# EAGLE library part SP3T_SWITCH (library cyclops)
TOGGLE SWITCH distributor RS Components
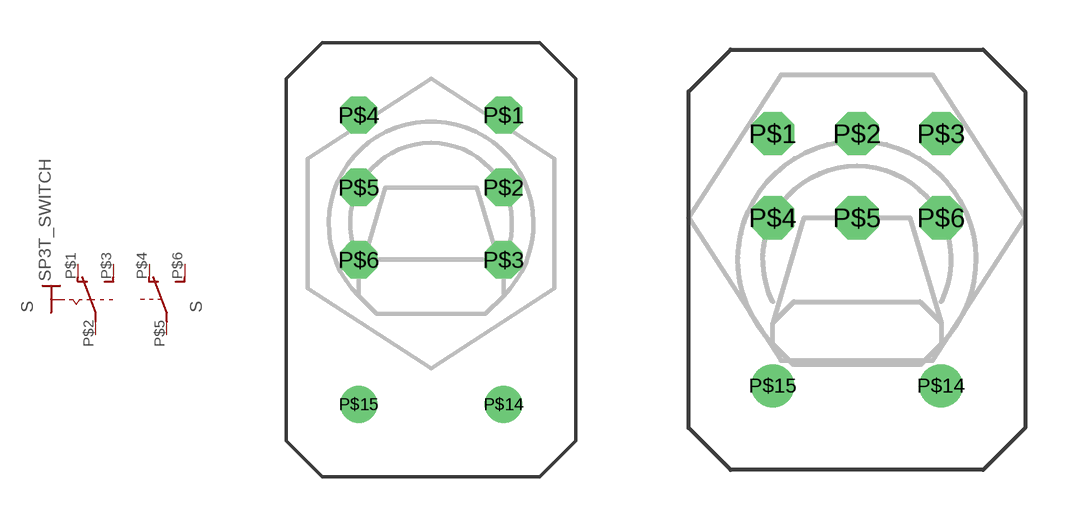
[diagram p1: symbol with the pads of 320-938; footprints 320-938, A27-ST3P]

Designator prefix S; gates B=U2 1=KS-U-

## SP3T_SWITCH  [320-938]
P$1  1:O  pas
P$2  1:P  pas
P$3  1:S  pas
P$4  B:O  pas
P$5  B:P  pas
P$6  B:S  pas

## SP3T_SWITCHA27-ST3P  [A27-ST3P]
Pads as for 320-938

## Footprint 320-938 (pad centres in mm)
TOGGLE SWITCH distributor RS Components
drill 0.8 octagon: P$1 2.54,3.81; P$2 2.54,1.27; P$3 2.54,-1.27; P$4 -2.54,3.81; P$5 -2.54,1.27; P$6 -2.54,-1.27
drill 0.8: P$14 2.54,-6.35; P$15 -2.54,-6.35

## Footprint A27-ST3P (pad centres in mm)
drill 0.8 octagon: P$1 -2.54,10.16; P$2 0,10.16; P$3 2.54,10.16; P$4 -2.54,7.62; P$5 0,7.62; P$6 2.54,7.62
drill 0.8: P$14 2.54,2.54; P$15 -2.54,2.54